# EAGLE library part P260_4+S (library pot-tt_electronics)
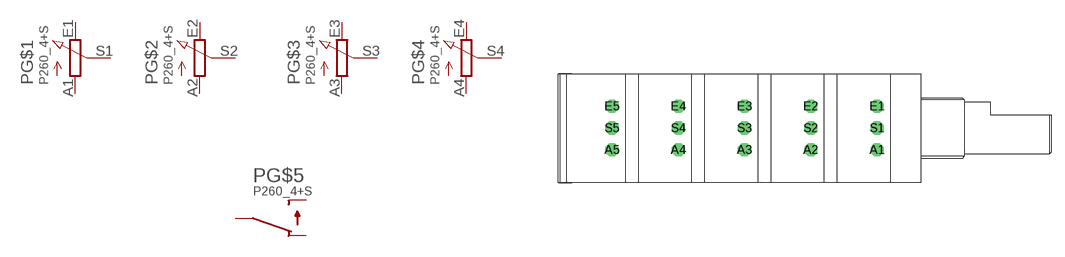
[diagram p22: symbol with the pads of P260_5; footprint P260_5]

Designator prefix P; gates G$1=POT_EU- G$2=POT_EU- G$3=POT_EU- G$4=POT_EU- G$5=SW2

## P260_4+S  [P260_5]
A1  G$1:A  pas
A2  G$2:A  pas
A3  G$3:A  pas
A4  G$4:A  pas
A5  G$5:SW_A  pas
E1  G$1:E  pas
E2  G$2:E  pas
E3  G$3:E  pas
E4  G$4:E  pas
E5  G$5:SW_E  pas
S1  G$1:S  pas
S2  G$2:S  pas
S3  G$3:S  pas
S4  G$4:S  pas
S5  G$5:_C  pas

## Footprint P260_5 (pad centres in mm)
drill 1 octagon: A1 -5,-2.5; A2 -12.6,-2.5; A3 -20.2,-2.5; A4 -27.8,-2.5; A5 -35.4,-2.5; E1 -5,2.5; E2 -12.6,2.5; E3 -20.2,2.5; E4 -27.8,2.5; E5 -35.4,2.5; S1 -5,0; S2 -12.6,0; S3 -20.2,0; S4 -27.8,0; S5 -35.4,0